# Altium footprint library con-lstb.PCBLIB: 41 footprints (part 3 of 3)
Each footprint in its own frame and in the unit in brackets; x right, y up, seen from the top. Pads: shape width x height; smd on the part's side, far side on the other; paste and mask are expansions set on the pad; w line width, h text height; cw(c..) or ccw(c..) is an arc to the next point about the centre after c.
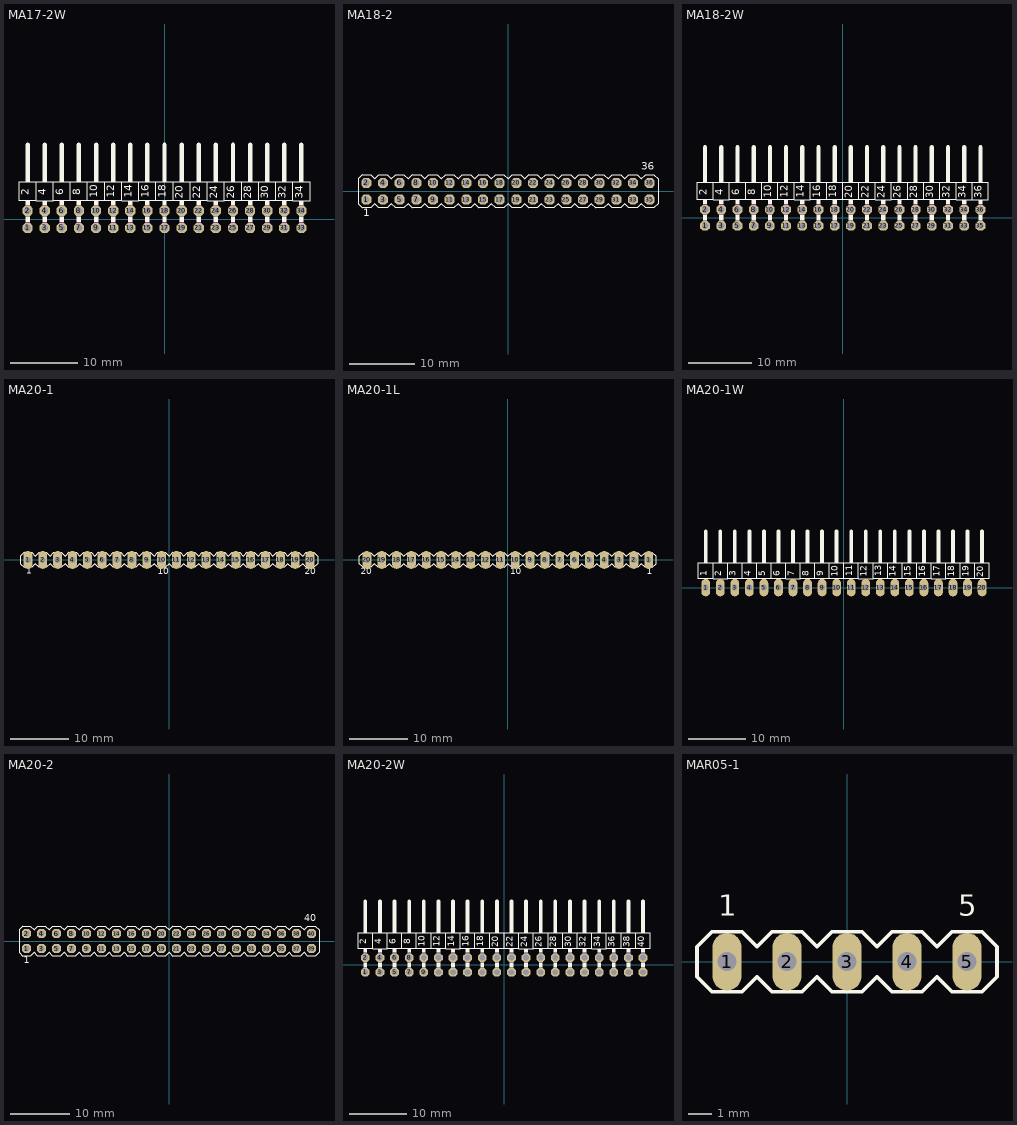
[diagram p2: the footprints below, top view; thin cyan lines are the x and y axes]

## MA17-2W [mil]
pads (34):
  oct 60x60 hole 40: 1(-800,-50) 2(-800,50) 3(-700,-50) 4(-700,50) 5(-600,-50) 6(-600,50) 7(-500,-50) 8(-500,50) 9(-400,-50) 10(-400,50) 11(-300,-50) 12(-300,50) 13(-200,-50) 14(-200,50) 15(-100,-50) 16(-100,50) 17(0,-50) 18(0,50) 19(100,-50) 20(100,50) 21(200,-50) 22(200,50) 23(300,-50) 24(300,50) 25(400,-50) 26(400,50) 27(500,-50) 28(500,50) 29(600,-50) 30(600,50) 31(700,-50) 32(700,50) 33(800,-50) 34(800,50)
Top Overlay:
  rectangle: 687,220 713,250
  rectangle: 787,220 813,250
  rectangle: 187,220 213,250
  rectangle: 287,220 313,250
  rectangle: 387,220 413,250
  rectangle: 487,220 513,250
  rectangle: 587,220 613,250
  rectangle: -313,220 -287,250
  rectangle: -213,220 -187,250
  rectangle: -113,220 -87,250
  rectangle: -13,220 13,250
  rectangle: 87,220 113,250
  rectangle: -813,220 -787,250
  rectangle: -713,220 -687,250
  rectangle: -613,220 -587,250
  rectangle: -513,220 -487,250
  rectangle: -413,220 -387,250
  rectangle: 787,84 813,110
  rectangle: 687,84 713,110
  rectangle: 587,84 613,110
  rectangle: 487,84 513,110
  rectangle: 387,84 413,110
  rectangle: 287,84 313,110
  rectangle: 187,84 213,110
  rectangle: 87,84 113,110
  rectangle: -13,84 13,110
  rectangle: -113,84 -87,110
  rectangle: -213,84 -187,110
  rectangle: -313,84 -287,110
  rectangle: -413,84 -387,110
  rectangle: -513,84 -487,110
  rectangle: -613,84 -587,110
  rectangle: -713,84 -687,110
  rectangle: -813,84 -787,110
  rectangle: -813,-16 -787,16
  rectangle: -713,-16 -687,16
  rectangle: -613,-16 -587,16
  rectangle: -513,-16 -487,16
  rectangle: -413,-16 -387,16
  rectangle: -313,-16 -287,16
  rectangle: -213,-16 -187,16
  rectangle: -113,-16 -87,16
  rectangle: -13,-16 13,16
  rectangle: 87,-16 113,16
  rectangle: 187,-16 213,16
  rectangle: 287,-16 313,16
  rectangle: 387,-16 413,16
  rectangle: 487,-16 513,16
  rectangle: 587,-16 613,16
  rectangle: 687,-16 713,16
  rectangle: 787,-16 813,16
  lines w6: -750,110 -750,220 ; -750,110 -850,110 -850,220 -750,220 ; -750,110 -650,110 ; -750,220 -650,220 ; -650,110 -550,110 ; -650,110 -650,220 ; -650,220 -550,220 ; -550,110 -450,110 ; -550,110 -550,220 ; -550,220 -450,220 ; -450,110 -350,110 ; -450,110 -450,220 ; -450,220 -350,220 ; -350,110 -250,110 ; -350,110 -350,220 ; -350,220 -250,220 ; -250,110 -250,220 ; -250,110 -150,110 ; -250,220 -150,220 ; -150,110 -50,110 ; -150,110 -150,220 ; -150,220 -50,220 ; -50,110 50,110 ; -50,110 -50,220 ; -50,220 50,220 ; 50,110 150,110 ; 50,110 50,220 ; 50,220 150,220 ; 150,110 250,110 ; 150,110 150,220 ; 150,220 250,220 ; 250,110 250,220 ; 250,110 350,110 ; 250,220 350,220 ; 350,110 450,110 ; 350,110 350,220 ; 350,220 450,220 ; 450,110 550,110 ; 450,110 450,220 ; 450,220 550,220 ; 550,110 650,110 ; 550,110 550,220 ; 550,220 650,220 ; 650,110 750,110 ; 650,110 650,220 ; 650,220 750,220 ; 750,110 750,220 ; 750,110 850,110 850,220 750,220
  lines w26: -800,250 -800,435 ; -700,250 -700,435 ; -600,250 -600,435 ; -500,250 -500,435 ; -400,250 -400,435 ; -300,250 -300,435 ; -200,250 -200,435 ; -100,250 -100,435 ; 0,250 0,435 ; 100,250 100,435 ; 200,250 200,435 ; 300,250 300,435 ; 400,250 400,435 ; 500,250 500,435 ; 600,250 600,435 ; 700,250 700,435 ; 800,250 800,435
  text "34" at 825,120 h77.5
  text "32" at 725,120 h77.5
  text "30" at 625,120 h77.5
  text "28" at 525,120 h77.5
  text "26" at 425,120 h77.5
  text "24" at 325,120 h77.5
  text "22" at 225,120 h77.5
  text "20" at 125,120 h77.5
  text "18" at 25,125 h77.5
  text "16" at -75,125 h77.5
  text "14" at -175,125 h77.5
  text "12" at -275,125 h77.5
  text "10" at -375,125 h77.5
  text "8" at -475,140 h77.5
  text "6" at -575,140 h77.5
  text "4" at -675,140 h77.5
  text "2" at -775,140 h77.5
Mechanical 16:
  rectangle: -813,16 -787,84
  rectangle: -813,-62 -787,-16
  rectangle: -713,16 -687,84
  rectangle: -713,-62 -687,-16
  rectangle: -613,16 -587,84
  rectangle: -613,-62 -587,-16
  rectangle: -513,16 -487,84
  rectangle: -513,-62 -487,-16
  rectangle: -413,16 -387,84
  rectangle: -313,16 -287,84
  rectangle: -413,-62 -387,-16
  rectangle: -313,-62 -287,-16
  rectangle: -213,16 -187,84
  rectangle: -213,-62 -187,-16
  rectangle: -113,16 -87,84
  rectangle: -113,-62 -87,-16
  rectangle: -13,16 13,84
  rectangle: 87,16 113,84
  rectangle: -13,-62 13,-16
  rectangle: 87,-62 113,-16
  rectangle: 187,16 213,84
  rectangle: 287,16 313,84
  rectangle: 387,16 413,84
  rectangle: 187,-62 213,-16
  rectangle: 287,-62 313,-16
  rectangle: 387,-62 413,-16
  rectangle: 487,-62 513,-16
  rectangle: 587,-62 613,-16
  rectangle: 487,16 513,84
  rectangle: 587,16 613,84
  rectangle: 687,16 713,84
  rectangle: 787,16 813,84
  rectangle: 687,-62 713,-16
  rectangle: 787,-62 813,-16

## MA18-2 [mil]
pads (36):
  oct 60x60 hole 40: 1(-850,-50) 2(-850,50) 3(-750,-50) 4(-750,50) 5(-650,-50) 6(-650,50) 7(-550,-50) 8(-550,50) 9(-450,-50) 10(-450,50) 11(-350,-50) 12(-350,50) 13(-250,-50) 14(-250,50) 15(-150,-50) 16(-150,50) 17(-50,-50) 18(-50,50) 19(50,-50) 20(50,50) 21(150,-50) 22(150,50) 23(250,-50) 24(250,50) 25(350,-50) 26(350,50) 27(450,-50) 28(450,50) 29(550,-50) 30(550,50) 31(650,-50) 32(650,50) 33(750,-50) 34(750,50) 35(850,-50) 36(850,50)
Top Overlay:
  lines w6: -900,-75 -900,75 -875,100 -825,100 -800,75 -775,100 -725,100 -700,75 -675,100 -625,100 -600,75 -575,100 -525,100 -500,75 -475,100 -425,100 -400,75 -375,100 -325,100 -300,75 -275,100 -225,100 -200,75 -175,100 -125,100 -100,75 -75,100 -25,100 0,75 25,100 75,100 100,75 125,100 175,100 200,75 225,100 275,100 300,75 325,100 375,100 400,75 425,100 475,100 500,75 525,100 575,100 600,75 625,100 675,100 700,75 725,100 775,100 800,75 825,100 875,100 900,75 900,-75 875,-100 825,-100 800,-75 775,-100 725,-100 700,-75 675,-100 625,-100 600,-75 575,-100 525,-100 500,-75 475,-100 425,-100 400,-75 375,-100 325,-100 300,-75 275,-100 225,-100 200,-75 175,-100 125,-100 100,-75 75,-100 25,-100 0,-75 -25,-100 -75,-100 -100,-75 -125,-100 -175,-100 -200,-75 -225,-100 -275,-100 -300,-75 -325,-100 -375,-100 -400,-75 -425,-100 -475,-100 -500,-75 -525,-100 -575,-100 -600,-75 -625,-100 -675,-100 -700,-75 -725,-100 -775,-100 -800,-75 -825,-100 -875,-100 -900,-75
  text "1" at -870,-165 h77.5
  text "36" at 800,115 h77.5
Mechanical 16:
  rectangle: -760,-60 -740,-40
  rectangle: -860,-60 -840,-40
  rectangle: -660,-60 -640,-40
  rectangle: -460,-60 -440,-40
  rectangle: -560,-60 -540,-40
  rectangle: -360,-60 -340,-40
  rectangle: -860,40 -840,60
  rectangle: -760,40 -740,60
  rectangle: -660,40 -640,60
  rectangle: -560,40 -540,60
  rectangle: -460,40 -440,60
  rectangle: -360,40 -340,60
  rectangle: -260,40 -240,60
  rectangle: -260,-60 -240,-40
  rectangle: -60,-60 -40,-40
  rectangle: -160,-60 -140,-40
  rectangle: 40,-60 60,-40
  rectangle: 240,-60 260,-40
  rectangle: 140,-60 160,-40
  rectangle: 340,-60 360,-40
  rectangle: -160,40 -140,60
  rectangle: -60,40 -40,60
  rectangle: 40,40 60,60
  rectangle: 140,40 160,60
  rectangle: 240,40 260,60
  rectangle: 340,40 360,60
  rectangle: 440,40 460,60
  rectangle: 440,-60 460,-40
  rectangle: 640,-60 660,-40
  rectangle: 540,-60 560,-40
  rectangle: 740,-60 760,-40
  rectangle: 540,40 560,60
  rectangle: 640,40 660,60
  rectangle: 740,40 760,60
  rectangle: 840,-60 860,-40
  rectangle: 840,40 860,60

## MA18-2W [mil]
pads (36):
  oct 60x60 hole 40: 1(-850,-50) 2(-850,50) 3(-750,-50) 4(-750,50) 5(-650,-50) 6(-650,50) 7(-550,-50) 8(-550,50) 9(-450,-50) 10(-450,50) 11(-350,-50) 12(-350,50) 13(-250,-50) 14(-250,50) 15(-150,-50) 16(-150,50) 17(-50,-50) 18(-50,50) 19(50,-50) 20(50,50) 21(150,-50) 22(150,50) 23(250,-50) 24(250,50) 25(350,-50) 26(350,50) 27(450,-50) 28(450,50) 29(550,-50) 30(550,50) 31(650,-50) 32(650,50) 33(750,-50) 34(750,50) 35(850,-50) 36(850,50)
Top Overlay:
  rectangle: 637,220 663,250
  rectangle: 737,220 763,250
  rectangle: 137,220 163,250
  rectangle: 237,220 263,250
  rectangle: 337,220 363,250
  rectangle: 437,220 463,250
  rectangle: 537,220 563,250
  rectangle: -363,220 -337,250
  rectangle: -263,220 -237,250
  rectangle: -163,220 -137,250
  rectangle: -63,220 -37,250
  rectangle: 37,220 63,250
  rectangle: -863,220 -837,250
  rectangle: -763,220 -737,250
  rectangle: -663,220 -637,250
  rectangle: -563,220 -537,250
  rectangle: -463,220 -437,250
  rectangle: 737,84 763,110
  rectangle: 637,84 663,110
  rectangle: 537,84 563,110
  rectangle: 437,84 463,110
  rectangle: 337,84 363,110
  rectangle: 237,84 263,110
  rectangle: 137,84 163,110
  rectangle: 37,84 63,110
  rectangle: -63,84 -37,110
  rectangle: -163,84 -137,110
  rectangle: -263,84 -237,110
  rectangle: -363,84 -337,110
  rectangle: -463,84 -437,110
  rectangle: -563,84 -537,110
  rectangle: -663,84 -637,110
  rectangle: -763,84 -737,110
  rectangle: -863,84 -837,110
  rectangle: -863,-16 -837,16
  rectangle: -763,-16 -737,16
  rectangle: -663,-16 -637,16
  rectangle: -563,-16 -537,16
  rectangle: -463,-16 -437,16
  rectangle: -363,-16 -337,16
  rectangle: -263,-16 -237,16
  rectangle: -163,-16 -137,16
  rectangle: -63,-16 -37,16
  rectangle: 37,-16 63,16
  rectangle: 137,-16 163,16
  rectangle: 237,-16 263,16
  rectangle: 337,-16 363,16
  rectangle: 437,-16 463,16
  rectangle: 537,-16 563,16
  rectangle: 637,-16 663,16
  rectangle: 737,-16 763,16
  rectangle: 837,-16 863,16
  rectangle: 837,84 863,110
  rectangle: 837,220 863,250
  lines w6: -800,110 -800,220 ; -800,110 -900,110 -900,220 -800,220 ; -800,110 -700,110 ; -800,220 -700,220 ; -700,110 -600,110 ; -700,110 -700,220 ; -700,220 -600,220 ; -600,110 -500,110 ; -600,110 -600,220 ; -600,220 -500,220 ; -500,110 -400,110 ; -500,110 -500,220 ; -500,220 -400,220 ; -400,110 -300,110 ; -400,110 -400,220 ; -400,220 -300,220 ; -300,110 -300,220 ; -300,110 -200,110 ; -300,220 -200,220 ; -200,110 -100,110 ; -200,110 -200,220 ; -200,220 -100,220 ; -100,110 0,110 ; -100,110 -100,220 ; -100,220 0,220 ; 0,110 100,110 ; 0,110 0,220 ; 0,220 100,220 ; 100,110 200,110 ; 100,110 100,220 ; 100,220 200,220 ; 200,110 200,220 ; 200,110 300,110 ; 200,220 300,220 ; 300,110 400,110 ; 300,110 300,220 ; 300,220 400,220 ; 400,110 500,110 ; 400,110 400,220 ; 400,220 500,220 ; 500,110 600,110 ; 500,110 500,220 ; 500,220 600,220 ; 600,110 700,110 ; 600,110 600,220 ; 600,220 700,220 ; 700,110 700,220 ; 700,110 800,110 ; 700,220 800,220 ; 800,110 800,220 ; 800,110 900,110 900,220 800,220
  lines w26: -850,250 -850,435 ; -750,250 -750,435 ; -650,250 -650,435 ; -550,250 -550,435 ; -450,250 -450,435 ; -350,250 -350,435 ; -250,250 -250,435 ; -150,250 -150,435 ; -50,250 -50,435 ; 50,250 50,435 ; 150,250 150,435 ; 250,250 250,435 ; 350,250 350,435 ; 450,250 450,435 ; 550,250 550,435 ; 650,250 650,435 ; 750,250 750,435 ; 850,250 850,435
  text "34" at 775,120 h77.5
  text "32" at 675,120 h77.5
  text "30" at 575,120 h77.5
  text "28" at 475,120 h77.5
  text "26" at 375,120 h77.5
  text "24" at 275,120 h77.5
  text "22" at 175,120 h77.5
  text "20" at 75,120 h77.5
  text "18" at -25,125 h77.5
  text "16" at -125,125 h77.5
  text "14" at -225,125 h77.5
  text "12" at -325,125 h77.5
  text "10" at -425,125 h77.5
  text "8" at -525,140 h77.5
  text "6" at -625,140 h77.5
  text "4" at -725,140 h77.5
  text "2" at -825,140 h77.5
  text "36" at 875,120 h77.5
Mechanical 16:
  rectangle: -863,16 -837,84
  rectangle: -863,-62 -837,-16
  rectangle: -763,16 -737,84
  rectangle: -763,-62 -737,-16
  rectangle: -663,16 -637,84
  rectangle: -663,-62 -637,-16
  rectangle: -563,16 -537,84
  rectangle: -563,-62 -537,-16
  rectangle: -463,16 -437,84
  rectangle: -363,16 -337,84
  rectangle: -463,-62 -437,-16
  rectangle: -363,-62 -337,-16
  rectangle: -263,16 -237,84
  rectangle: -263,-62 -237,-16
  rectangle: -163,16 -137,84
  rectangle: -163,-62 -137,-16
  rectangle: -63,16 -37,84
  rectangle: 37,16 63,84
  rectangle: -63,-62 -37,-16
  rectangle: 37,-62 63,-16
  rectangle: 137,16 163,84
  rectangle: 237,16 263,84
  rectangle: 337,16 363,84
  rectangle: 137,-62 163,-16
  rectangle: 237,-62 263,-16
  rectangle: 337,-62 363,-16
  rectangle: 437,-62 463,-16
  rectangle: 537,-62 563,-16
  rectangle: 437,16 463,84
  rectangle: 537,16 563,84
  rectangle: 637,16 663,84
  rectangle: 737,16 763,84
  rectangle: 637,-62 663,-16
  rectangle: 737,-62 763,-16
  rectangle: 837,-62 863,-16
  rectangle: 837,16 863,84

## MA20-1 [mil]
pads (20):
  oval 60x120 hole 40: 1(-950,0) 2(-850,0) 3(-750,0) 4(-650,0) 5(-550,0) 6(-450,0) 7(-350,0) 8(-250,0) 9(-150,0) 10(-50,0) 11(50,0) 12(150,0) 13(250,0) 14(350,0) 15(450,0) 16(550,0) 17(650,0) 18(750,0) 19(850,0) 20(950,0)
Top Overlay:
  lines w6: -1000,-25 -1000,25 -975,50 -925,50 -900,25 -875,50 -825,50 -800,25 -775,50 -725,50 -700,25 -675,50 -625,50 -600,25 -575,50 -525,50 -500,25 -475,50 -425,50 -400,25 -375,50 -325,50 -300,25 -275,50 -225,50 -200,25 -175,50 -125,50 -100,25 -75,50 -25,50 0,25 25,50 75,50 100,25 125,50 175,50 200,25 225,50 275,50 300,25 325,50 375,50 400,25 425,50 475,50 500,25 525,50 575,50 600,25 625,50 675,50 700,25 725,50 775,50 800,25 825,50 875,50 900,25 925,50 975,50 1000,25 1000,-25 975,-50 925,-50 900,-25 875,-50 825,-50 800,-25 775,-50 725,-50 700,-25 675,-50 625,-50 600,-25 575,-50 525,-50 500,-25 475,-50 425,-50 400,-25 375,-50 325,-50 300,-25 275,-50 225,-50 200,-25 175,-50 125,-50 100,-25 75,-50 25,-50 0,-25 -25,-50 -75,-50 -100,-25 -125,-50 -175,-50 -200,-25 -225,-50 -275,-50 -300,-25 -325,-50 -375,-50 -400,-25 -425,-50 -475,-50 -500,-25 -525,-50 -575,-50 -600,-25 -625,-50 -675,-50 -700,-25 -725,-50 -775,-50 -800,-25 -825,-50 -875,-50 -900,-25 -925,-50 -975,-50 -1000,-25
  text "1" at -960,-110 h77.5
  text "20" at 915,-115 h77.5
  text "10" at -75,-115 h77.5
Mechanical 16:
  rectangle: -963,-13 -937,13
  rectangle: 37,-13 63,13
  rectangle: -863,-13 -837,13
  rectangle: -763,-13 -737,13
  rectangle: -663,-13 -637,13
  rectangle: -563,-13 -537,13
  rectangle: 137,-13 163,13
  rectangle: 237,-13 263,13
  rectangle: 337,-13 363,13
  rectangle: 437,-13 463,13
  rectangle: -463,-13 -437,13
  rectangle: -363,-13 -337,13
  rectangle: -263,-13 -237,13
  rectangle: -163,-13 -137,13
  rectangle: -63,-13 -37,13
  rectangle: 537,-13 563,13
  rectangle: 637,-13 663,13
  rectangle: 737,-13 763,13
  rectangle: 837,-13 863,13
  rectangle: 937,-13 963,13

## MA20-1L [mil]
pads (20):
  oval 60x120 hole 40: 1(950,0) 2(850,0) 3(750,0) 4(650,0) 5(550,0) 6(450,0) 7(350,0) 8(250,0) 9(150,0) 10(50,0) 11(-50,0) 12(-150,0) 13(-250,0) 14(-350,0) 15(-450,0) 16(-550,0) 17(-650,0) 18(-750,0) 19(-850,0) 20(-950,0)
Top Overlay:
  lines w6: -1000,-25 -975,-50 -925,-50 -900,-25 -875,-50 -825,-50 -800,-25 -775,-50 -725,-50 -700,-25 -675,-50 -625,-50 -600,-25 -575,-50 -525,-50 -500,-25 -475,-50 -425,-50 -400,-25 -375,-50 -325,-50 -300,-25 -275,-50 -225,-50 -200,-25 -175,-50 -125,-50 -100,-25 -75,-50 -25,-50 0,-25 25,-50 75,-50 100,-25 125,-50 175,-50 200,-25 225,-50 275,-50 300,-25 325,-50 375,-50 400,-25 425,-50 475,-50 500,-25 525,-50 575,-50 600,-25 625,-50 675,-50 700,-25 725,-50 775,-50 800,-25 825,-50 875,-50 900,-25 925,-50 975,-50 1000,-25 1000,25 975,50 925,50 900,25 875,50 825,50 800,25 775,50 725,50 700,25 675,50 625,50 600,25 575,50 525,50 500,25 475,50 425,50 400,25 375,50 325,50 300,25 275,50 225,50 200,25 175,50 125,50 100,25 75,50 25,50 0,25 -25,50 -75,50 -100,25 -125,50 -175,50 -200,25 -225,50 -275,50 -300,25 -325,50 -375,50 -400,25 -425,50 -475,50 -500,25 -525,50 -575,50 -600,25 -625,50 -675,50 -700,25 -725,50 -775,50 -800,25 -825,50 -875,50 -900,25 -925,50 -975,50 -1000,25 -1000,-25
  text "1" at 935,-115 h77.5
  text "20" at -990,-115 h77.5
  text "10" at 15,-115 h77.5
Mechanical 16:
  rectangle: 937,-13 963,13
  rectangle: -63,-13 -37,13
  rectangle: 837,-13 863,13
  rectangle: 737,-13 763,13
  rectangle: 637,-13 663,13
  rectangle: 537,-13 563,13
  rectangle: -163,-13 -137,13
  rectangle: -263,-13 -237,13
  rectangle: -363,-13 -337,13
  rectangle: -463,-13 -437,13
  rectangle: 437,-13 463,13
  rectangle: 337,-13 363,13
  rectangle: 237,-13 263,13
  rectangle: 137,-13 163,13
  rectangle: 37,-13 63,13
  rectangle: -563,-13 -537,13
  rectangle: -663,-13 -637,13
  rectangle: -763,-13 -737,13
  rectangle: -863,-13 -837,13
  rectangle: -963,-13 -937,13

## MA20-1W [mil]
pads (20):
  oval 60x120 hole 40: 1(-950,0) 2(-850,0) 3(-750,0) 4(-650,0) 5(-550,0) 6(-450,0) 7(-350,0) 8(-250,0) 9(-150,0) 10(-50,0) 11(50,0) 12(150,0) 13(250,0) 14(350,0) 15(450,0) 16(550,0) 17(650,0) 18(750,0) 19(850,0) 20(950,0)
Top Overlay:
  rectangle: 537,170 563,200
  rectangle: 637,170 663,200
  rectangle: 737,170 763,200
  rectangle: 837,170 863,200
  rectangle: 937,170 963,200
  rectangle: 37,170 63,200
  rectangle: 137,170 163,200
  rectangle: 237,170 263,200
  rectangle: 337,170 363,200
  rectangle: 437,170 463,200
  rectangle: -463,170 -437,200
  rectangle: -363,170 -337,200
  rectangle: -263,170 -237,200
  rectangle: -163,170 -137,200
  rectangle: -63,170 -37,200
  rectangle: -963,170 -937,200
  rectangle: -863,170 -837,200
  rectangle: -763,170 -737,200
  rectangle: -663,170 -637,200
  rectangle: -563,170 -537,200
  rectangle: 637,34 663,60
  rectangle: 737,34 763,60
  rectangle: 837,34 863,60
  rectangle: 937,34 963,60
  rectangle: 537,34 563,60
  rectangle: 437,34 463,60
  rectangle: 337,34 363,60
  rectangle: 237,34 263,60
  rectangle: 137,34 163,60
  rectangle: 37,34 63,60
  rectangle: -63,34 -37,60
  rectangle: -163,34 -137,60
  rectangle: -263,34 -237,60
  rectangle: -363,34 -337,60
  rectangle: -463,34 -437,60
  rectangle: -563,34 -537,60
  rectangle: -663,34 -637,60
  rectangle: -763,34 -737,60
  rectangle: -863,34 -837,60
  rectangle: -963,34 -937,60
  lines w6: -900,60 -900,170 ; -900,60 -1000,60 -1000,170 -900,170 ; -900,60 -800,60 ; -900,170 -800,170 ; -800,60 -700,60 ; -800,60 -800,170 ; -800,170 -700,170 ; -700,60 -600,60 ; -700,60 -700,170 ; -700,170 -600,170 ; -600,60 -500,60 ; -600,60 -600,170 ; -600,170 -500,170 ; -500,60 -400,60 ; -500,60 -500,170 ; -500,170 -400,170 ; -400,60 -400,170 ; -400,60 -300,60 ; -400,170 -300,170 ; -300,60 -200,60 ; -300,60 -300,170 ; -300,170 -200,170 ; -200,60 -100,60 ; -200,60 -200,170 ; -200,170 -100,170 ; -100,60 0,60 ; -100,60 -100,170 ; -100,170 0,170 ; 0,60 100,60 ; 0,60 0,170 ; 0,170 100,170 ; 100,60 100,170 ; 100,60 200,60 ; 100,170 200,170 ; 200,60 300,60 ; 200,60 200,170 ; 200,170 300,170 ; 300,60 400,60 ; 300,60 300,170 ; 300,170 400,170 ; 400,60 500,60 ; 400,60 400,170 ; 400,170 500,170 ; 500,60 600,60 ; 500,60 500,170 ; 500,170 600,170 ; 600,60 600,170 ; 600,60 700,60 ; 600,170 700,170 ; 700,60 800,60 ; 700,60 700,170 ; 700,170 800,170 ; 800,60 900,60 ; 800,60 800,170 ; 800,170 900,170 ; 900,60 1000,60 1000,170 900,170 ; 900,60 900,170
  lines w26: -950,200 -950,385 ; -850,200 -850,385 ; -750,200 -750,385 ; -650,200 -650,385 ; -550,200 -550,385 ; -450,200 -450,385 ; -350,200 -350,385 ; -250,200 -250,385 ; -150,200 -150,385 ; -50,200 -50,385 ; 50,200 50,385 ; 150,200 150,385 ; 250,200 250,385 ; 350,200 350,385 ; 450,200 450,385 ; 550,200 550,385 ; 650,200 650,385 ; 750,200 750,385 ; 850,200 850,385 ; 950,200 950,385
  text "1" at -925,80 h77.5
  text "2" at -825,80 h77.5
  text "3" at -725,80 h77.5
  text "4" at -625,80 h77.5
  text "5" at -525,80 h77.5
  text "6" at -425,80 h77.5
  text "7" at -325,80 h77.5
  text "8" at -225,80 h77.5
  text "9" at -125,80 h77.5
  text "10" at -25,75 h77.5
  text "11" at 75,80 h77.5
  text "12" at 175,75 h77.5
  text "13" at 275,80 h77.5
  text "14" at 375,75 h77.5
  text "15" at 475,75 h77.5
  text "16" at 575,75 h77.5
  text "17" at 675,75 h77.5
  text "18" at 775,75 h77.5
  text "19" at 875,75 h77.5
  text "20" at 975,70 h77.5
Mechanical 16:
  rectangle: 637,-13 663,34
  rectangle: 737,-13 763,34
  rectangle: 837,-13 863,34
  rectangle: 937,-13 963,34
  rectangle: 537,-13 563,34
  rectangle: 437,-13 463,34
  rectangle: 337,-13 363,34
  rectangle: 237,-13 263,34
  rectangle: 137,-13 163,34
  rectangle: 37,-13 63,34
  rectangle: -63,-13 -37,34
  rectangle: -163,-13 -137,34
  rectangle: -263,-13 -237,34
  rectangle: -363,-13 -337,34
  rectangle: -463,-13 -437,34
  rectangle: -563,-13 -537,34
  rectangle: -663,-13 -637,34
  rectangle: -763,-13 -737,34
  rectangle: -863,-13 -837,34
  rectangle: -963,-13 -937,34

## MA20-2 [mil]
pads (40):
  oct 60x60 hole 40: 1(-950,-50) 2(-950,50) 3(-850,-50) 4(-850,50) 5(-750,-50) 6(-750,50) 7(-650,-50) 8(-650,50) 9(-550,-50) 10(-550,50) 11(-450,-50) 12(-450,50) 13(-350,-50) 14(-350,50) 15(-250,-50) 16(-250,50) 17(-150,-50) 18(-150,50) 19(-50,-50) 20(-50,50) 21(50,-50) 22(50,50) 23(150,-50) 24(150,50) 25(250,-50) 26(250,50) 27(350,-50) 28(350,50) 29(450,-50) 30(450,50) 31(550,-50) 32(550,50) 33(650,-50) 34(650,50) 35(750,-50) 36(750,50) 37(850,-50) 38(850,50) 39(950,-50) 40(950,50)
Top Overlay:
  lines w6: -1000,-75 -1000,75 -975,100 -925,100 -900,75 -875,100 -825,100 -800,75 -775,100 -725,100 -700,75 -675,100 -625,100 -600,75 -575,100 -525,100 -500,75 -475,100 -425,100 -400,75 -375,100 -325,100 -300,75 -275,100 -225,100 -200,75 -175,100 -125,100 -100,75 -75,100 -25,100 0,75 25,100 75,100 100,75 125,100 175,100 200,75 225,100 275,100 300,75 325,100 375,100 400,75 425,100 475,100 500,75 525,100 575,100 600,75 625,100 675,100 700,75 725,100 775,100 800,75 825,100 875,100 900,75 925,100 975,100 1000,75 1000,-75 975,-100 925,-100 900,-75 875,-100 825,-100 800,-75 775,-100 725,-100 700,-75 675,-100 625,-100 600,-75 575,-100 525,-100 500,-75 475,-100 425,-100 400,-75 375,-100 325,-100 300,-75 275,-100 225,-100 200,-75 175,-100 125,-100 100,-75 75,-100 25,-100 0,-75 -25,-100 -75,-100 -100,-75 -125,-100 -175,-100 -200,-75 -225,-100 -275,-100 -300,-75 -325,-100 -375,-100 -400,-75 -425,-100 -475,-100 -500,-75 -525,-100 -575,-100 -600,-75 -625,-100 -675,-100 -700,-75 -725,-100 -775,-100 -800,-75 -825,-100 -875,-100 -900,-75 -925,-100 -975,-100 -1000,-75
  text "1" at -970,-165 h77.5
  text "40" at 900,115 h77.5
Mechanical 16:
  rectangle: -860,-60 -840,-40
  rectangle: -960,-60 -940,-40
  rectangle: -760,-60 -740,-40
  rectangle: -560,-60 -540,-40
  rectangle: -660,-60 -640,-40
  rectangle: -460,-60 -440,-40
  rectangle: -960,40 -940,60
  rectangle: -860,40 -840,60
  rectangle: -760,40 -740,60
  rectangle: -660,40 -640,60
  rectangle: -560,40 -540,60
  rectangle: -460,40 -440,60
  rectangle: -360,40 -340,60
  rectangle: -360,-60 -340,-40
  rectangle: -160,-60 -140,-40
  rectangle: -260,-60 -240,-40
  rectangle: -60,-60 -40,-40
  rectangle: 140,-60 160,-40
  rectangle: 40,-60 60,-40
  rectangle: 240,-60 260,-40
  rectangle: -260,40 -240,60
  rectangle: -160,40 -140,60
  rectangle: -60,40 -40,60
  rectangle: 40,40 60,60
  rectangle: 140,40 160,60
  rectangle: 240,40 260,60
  rectangle: 340,40 360,60
  rectangle: 340,-60 360,-40
  rectangle: 540,-60 560,-40
  rectangle: 440,-60 460,-40
  rectangle: 640,-60 660,-40
  rectangle: 840,-60 860,-40
  rectangle: 740,-60 760,-40
  rectangle: 940,-60 960,-40
  rectangle: 440,40 460,60
  rectangle: 540,40 560,60
  rectangle: 640,40 660,60
  rectangle: 740,40 760,60
  rectangle: 840,40 860,60
  rectangle: 940,40 960,60

## MA20-2W [mil]
pads (40):
  oct 60x60 hole 40: 1(-950,-50) 2(-950,50) 3(-850,-50) 4(-850,50) 5(-750,-50) 6(-750,50) 7(-650,-50) 8(-650,50) 9(-550,-50) 10(-550,50) 11(-450,-50) 12(-450,50) 13(-350,-50) 14(-350,50) 15(-250,-50) 16(-250,50) 17(-150,-50) 18(-150,50) 19(-50,-50) 20(-50,50) 21(50,-50) 22(50,50) 23(150,-50) 24(150,50) 25(250,-50) 26(250,50) 27(350,-50) 28(350,50) 29(450,-50) 30(450,50) 31(550,-50) 32(550,50) 33(650,-50) 34(650,50) 35(750,-50) 36(750,50) 37(850,-50) 38(850,50) 39(950,-50) 40(950,50)
Top Overlay:
  rectangle: 537,220 563,250
  rectangle: 637,220 663,250
  rectangle: 737,220 763,250
  rectangle: 837,220 863,250
  rectangle: 937,220 963,250
  rectangle: 37,220 63,250
  rectangle: 137,220 163,250
  rectangle: 237,220 263,250
  rectangle: 337,220 363,250
  rectangle: 437,220 463,250
  rectangle: -463,220 -437,250
  rectangle: -363,220 -337,250
  rectangle: -263,220 -237,250
  rectangle: -163,220 -137,250
  rectangle: -63,220 -37,250
  rectangle: -963,220 -937,250
  rectangle: -863,220 -837,250
  rectangle: -763,220 -737,250
  rectangle: -663,220 -637,250
  rectangle: -563,220 -537,250
  rectangle: 637,84 663,110
  rectangle: 737,84 763,110
  rectangle: 837,84 863,110
  rectangle: 937,84 963,110
  rectangle: 537,84 563,110
  rectangle: 437,84 463,110
  rectangle: 337,84 363,110
  rectangle: 237,84 263,110
  rectangle: 137,84 163,110
  rectangle: 37,84 63,110
  rectangle: -63,84 -37,110
  rectangle: -163,84 -137,110
  rectangle: -263,84 -237,110
  rectangle: -363,84 -337,110
  rectangle: -463,84 -437,110
  rectangle: -563,84 -537,110
  rectangle: -663,84 -637,110
  rectangle: -763,84 -737,110
  rectangle: -863,84 -837,110
  rectangle: -963,84 -937,110
  rectangle: -963,-16 -937,16
  rectangle: -863,-16 -837,16
  rectangle: -763,-16 -737,16
  rectangle: -663,-16 -637,16
  rectangle: -563,-16 -537,16
  rectangle: -463,-16 -437,16
  rectangle: -363,-16 -337,16
  rectangle: -263,-16 -237,16
  rectangle: -163,-16 -137,16
  rectangle: -63,-16 -37,16
  rectangle: 37,-16 63,16
  rectangle: 137,-16 163,16
  rectangle: 237,-16 263,16
  rectangle: 337,-16 363,16
  rectangle: 437,-16 463,16
  rectangle: 537,-16 563,16
  rectangle: 637,-16 663,16
  rectangle: 737,-16 763,16
  rectangle: 837,-16 863,16
  rectangle: 937,-16 963,16
  lines w6: -900,110 -900,220 ; -900,110 -1000,110 -1000,220 -900,220 ; -900,110 -800,110 ; -900,220 -800,220 ; -800,110 -700,110 ; -800,110 -800,220 ; -800,220 -700,220 ; -700,110 -600,110 ; -700,110 -700,220 ; -700,220 -600,220 ; -600,110 -500,110 ; -600,110 -600,220 ; -600,220 -500,220 ; -500,110 -400,110 ; -500,110 -500,220 ; -500,220 -400,220 ; -400,110 -400,220 ; -400,110 -300,110 ; -400,220 -300,220 ; -300,110 -200,110 ; -300,110 -300,220 ; -300,220 -200,220 ; -200,110 -100,110 ; -200,110 -200,220 ; -200,220 -100,220 ; -100,110 0,110 ; -100,110 -100,220 ; -100,220 0,220 ; 0,110 100,110 ; 0,110 0,220 ; 0,220 100,220 ; 100,110 100,220 ; 100,110 200,110 ; 100,220 200,220 ; 200,110 300,110 ; 200,110 200,220 ; 200,220 300,220 ; 300,110 400,110 ; 300,110 300,220 ; 300,220 400,220 ; 400,110 500,110 ; 400,110 400,220 ; 400,220 500,220 ; 500,110 600,110 ; 500,110 500,220 ; 500,220 600,220 ; 600,110 600,220 ; 600,110 700,110 ; 600,220 700,220 ; 700,110 800,110 ; 700,110 700,220 ; 700,220 800,220 ; 800,110 900,110 ; 800,110 800,220 ; 800,220 900,220 ; 900,110 1000,110 1000,220 900,220 ; 900,110 900,220
  lines w26: -950,250 -950,435 ; -850,250 -850,435 ; -750,250 -750,435 ; -650,250 -650,435 ; -550,250 -550,435 ; -450,250 -450,435 ; -350,250 -350,435 ; -250,250 -250,435 ; -150,250 -150,435 ; -50,250 -50,435 ; 50,250 50,435 ; 150,250 150,435 ; 250,250 250,435 ; 350,250 350,435 ; 450,250 450,435 ; 550,250 550,435 ; 650,250 650,435 ; 750,250 750,435 ; 850,250 850,435 ; 950,250 950,435
  text "40" at 975,120 h77.5
  text "38" at 875,120 h77.5
  text "36" at 775,120 h77.5
  text "34" at 675,120 h77.5
  text "32" at 575,120 h77.5
  text "30" at 475,120 h77.5
  text "28" at 375,120 h77.5
  text "26" at 275,120 h77.5
  text "24" at 175,120 h77.5
  text "22" at 75,120 h77.5
  text "20" at -25,120 h77.5
  text "18" at -125,125 h77.5
  text "16" at -225,125 h77.5
  text "14" at -325,125 h77.5
  text "12" at -425,125 h77.5
  text "10" at -525,125 h77.5
  text "8" at -625,140 h77.5
  text "6" at -725,140 h77.5
  text "4" at -825,140 h77.5
  text "2" at -925,140 h77.5
Mechanical 16:
  rectangle: -963,16 -937,84
  rectangle: -963,-62 -937,-16
  rectangle: -863,16 -837,84
  rectangle: -863,-62 -837,-16
  rectangle: -763,16 -737,84
  rectangle: -763,-62 -737,-16
  rectangle: -663,16 -637,84
  rectangle: -663,-62 -637,-16
  rectangle: -563,16 -537,84
  rectangle: -463,16 -437,84
  rectangle: -563,-62 -537,-16
  rectangle: -463,-62 -437,-16
  rectangle: -363,16 -337,84
  rectangle: -363,-62 -337,-16
  rectangle: -263,16 -237,84
  rectangle: -263,-62 -237,-16
  rectangle: -163,16 -137,84
  rectangle: -63,16 -37,84
  rectangle: -163,-62 -137,-16
  rectangle: -63,-62 -37,-16
  rectangle: 37,16 63,84
  rectangle: 137,16 163,84
  rectangle: 237,16 263,84
  rectangle: 37,-62 63,-16
  rectangle: 137,-62 163,-16
  rectangle: 237,-62 263,-16
  rectangle: 337,-62 363,-16
  rectangle: 437,-62 463,-16
  rectangle: 337,16 363,84
  rectangle: 437,16 463,84
  rectangle: 537,16 563,84
  rectangle: 637,16 663,84
  rectangle: 537,-62 563,-16
  rectangle: 637,-62 663,-16
  rectangle: 737,16 763,84
  rectangle: 837,16 863,84
  rectangle: 937,16 963,84
  rectangle: 737,-62 763,-16
  rectangle: 837,-62 863,-16
  rectangle: 937,-62 963,-16

## MAR05-1 [mil]
pads (5):
  oval 48x96 hole 32: 1(-200,0) 2(-100,0) 3(0,0) 4(100,0) 5(200,0)
Top Overlay:
  lines w6: -250,-25 -250,25 -225,50 -175,50 -150,25 -125,50 -75,50 -50,25 -25,50 25,50 50,25 75,50 125,50 150,25 175,50 225,50 250,25 250,-25 225,-50 175,-50 150,-25 125,-50 75,-50 50,-25 25,-50 -25,-50 -50,-25 -75,-50 -125,-50 -150,-25 -175,-50 -225,-50 -250,-25
  text "1" at -215,65 h60.45
  text "5" at 185,65 h60.45
Mechanical 16:
  circle w12: c-200,0 r5
  circle w12: c-100,0 r10
  circle w12: c0,0 r10
  circle w12: c100,0 r10
  circle w12: c200,0 r10
  circle w12: c-200,0 r10
  circle w12: c-100,0 r5
  circle w12: c0,0 r5
  circle w12: c100,0 r5
  circle w12: c200,0 r5